# Altium footprint library Capasitors.PcbLib: 66 footprints (part 2 of 5)
Each footprint in its own frame and in the unit in brackets; x right, y up, seen from the top. Pads: shape width x height; smd on the part's side, far side on the other; paste and mask are expansions set on the pad; w line width, h text height; cw(c..) or ccw(c..) is an arc to the next point about the centre after c.
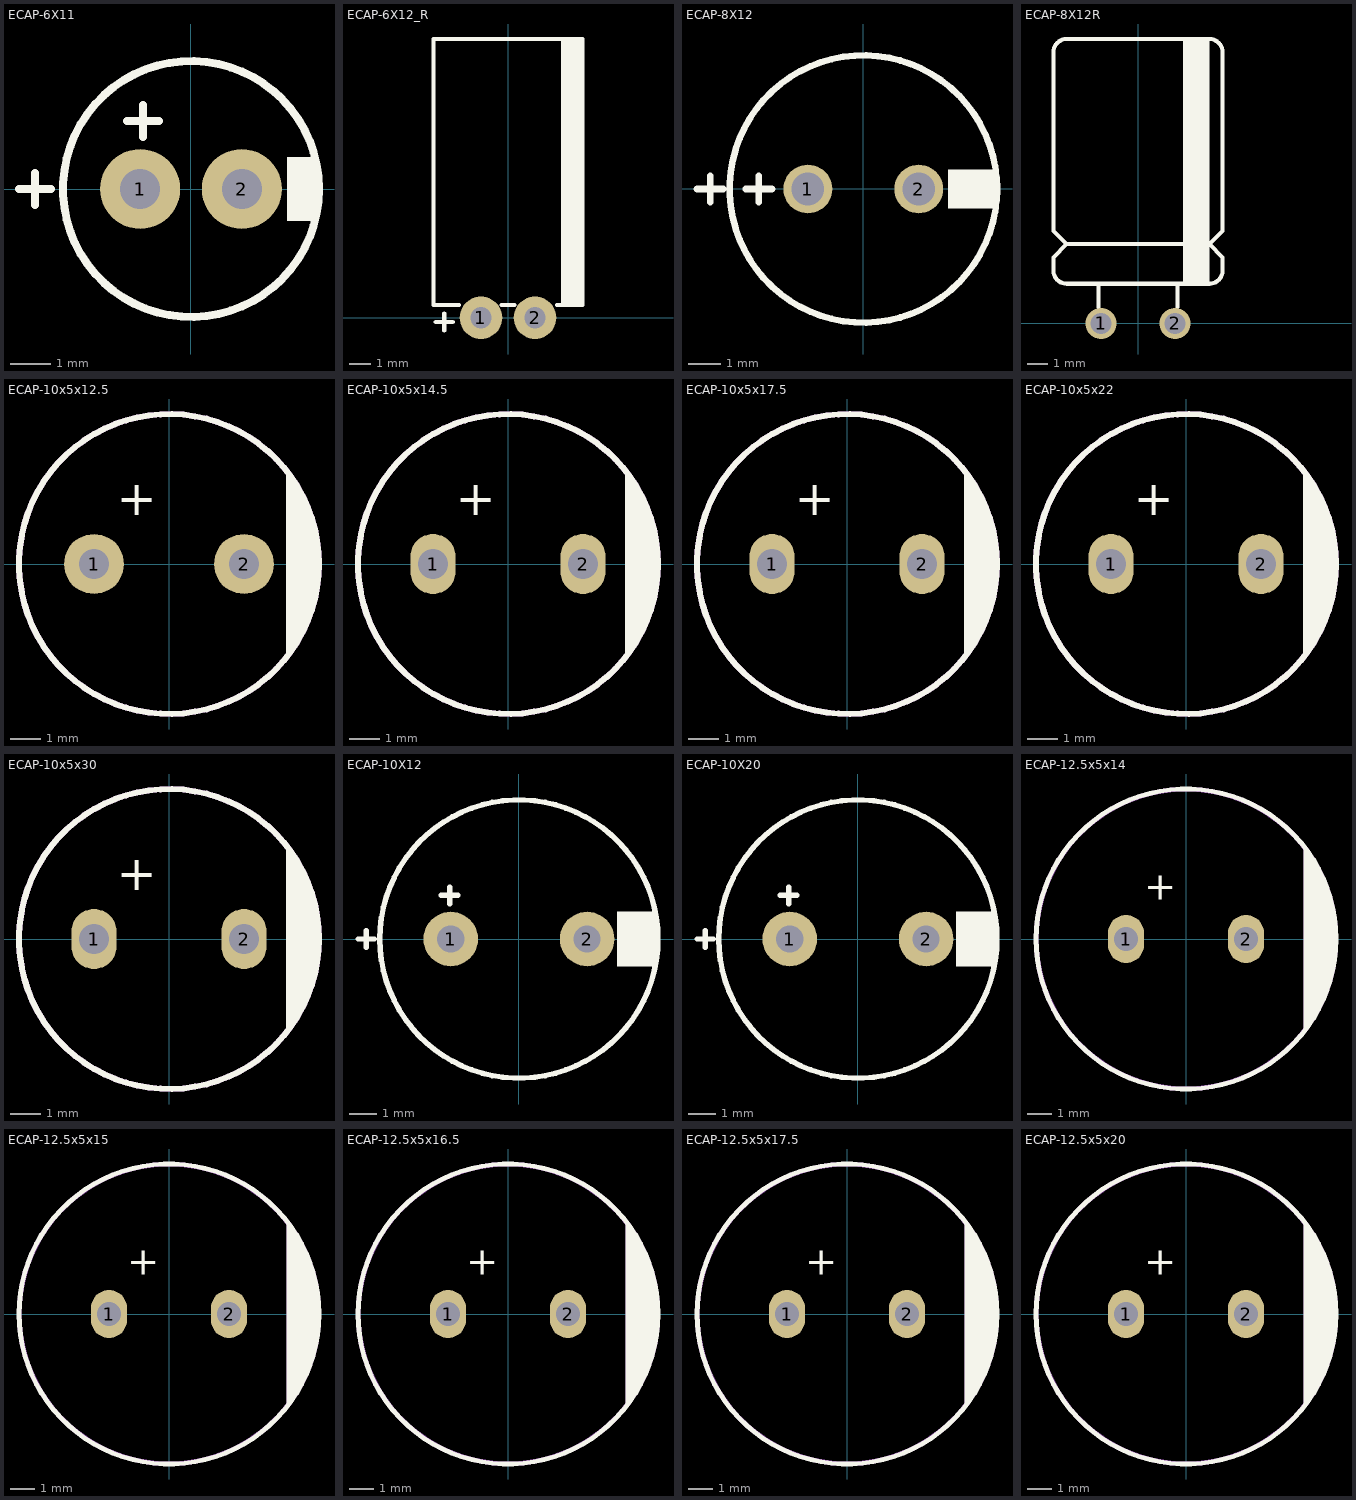
[diagram p1: the footprints below, top view; thin cyan lines are the x and y axes]

## ECAP-6X11 [mm] "Cap Elec, D6.3X11.0H pitch: 2.5mm"
height 11
pads (2):
  round 2 hole 1: 1(-1.27,0) 2(1.27,0)
Top Overlay:
  circle w0.2: c0,0 r3.2
  rectangle: 2.4,-0.8 3.184,0.8
  lines w0.2: -4.3,0 -3.5,0 ; -3.9,-0.4 -3.9,0.4 ; -1.6,1.7 -0.8,1.7 ; -1.2,1.3 -1.2,2.1
3D body "SW3dPS-Cap electro 6.3x11x2.5mm.STEP": height 2.51, standoff -12.03, extent -3.175,-3.175 3.175,3.176

## ECAP-6X12_R [mm] "Cap Elec, D6.3X12.0H pitch: 2.5mm"
height 11
pads (2):
  round 2 hole 1: 1(-1.27,0) 2(1.27,0)
Top Overlay:
  rectangle: 2.5,0.6 3.5,13.1
  lines w0.2: -3.4,-0.2 -2.6,-0.2 ; -3,-0.6 -3,0.2 ; -2.3,0.6 -3.5,0.6 -3.5,13.1 3.5,13.1 3.5,0.6 2.3,0.6 ; -0.3,0.6 0.3,0.6
3D body "CAPAE250P680X1220_FLAT1.STEP": height 6.8, standoff -1.78, extent -3.401,-0.249 3.4,12.952

## ECAP-8X12 [mm] "Cap Elec, D8.0X12.0H pitch: 3.5mm, RB.14/.26, RB.15/.32"
height 12
pads (2):
  round 1.5 hole 1: 1(-1.7,0) 2(1.7,0)
Top Overlay:
  circle w0.2: c0,0 r4.1
  rectangle: 2.6,-0.6 4,0.6
  lines w0.2: -5.1,0 -4.3,0 ; -4.7,-0.4 -4.7,0.4 ; -3.6,0 -2.8,0 ; -3.2,-0.4 -3.2,0.4
3D body "User Library-Cap electro 8x11_5x3_5mm.step": height 2.98, standoff -12.53, extent -4.025,-4.025 4.025,4.025

## ECAP-8X12R [mm] "Cap Elec, D8.0X12.0H pitch: 3.5mm, RIGHT ANGLE"
pads (2):
  round 1.5 hole 1: 1(-1.778,0) 2(1.778,0)
Top Overlay:
  region: 2.159,13.67 2.159,1.905 3.429,1.905 3.429,13.67
  lines w0.2: -1.905,0.762 -1.905,1.905 ; 1.905,0.787 1.905,1.905 ; -3.429,3.81 -4.064,4.445 -4.064,13.035 cw(c-3.429,13.035) -3.429,13.67 3.429,13.67 cw(c3.429,13.035) 4.064,13.035 4.064,4.445 3.429,3.81 ; -3.429,3.81 -4.064,3.175 -4.064,2.54 ccw(c-3.429,2.54) -3.429,1.905 3.429,1.905 ccw(c3.429,2.54) 4.064,2.54 4.064,3.175 3.429,3.81 ; -3.429,3.81 3.429,3.81
3D body "User Library-Cap electro 8x11_5x3_5mm RA.step": height 8.03, standoff -2, extent -4.025,-0.3 4.025,13.521

## ECAP-10x5x12.5 [mm] "10MM Diameter, 5MM Lead Spacing Aluminium Capacitor"
height 12.5
pads (2):
  round 2 hole 1: 1(-2.5,0) 2(2.5,0)
Top Overlay:
  circle w0.2: c0,0 r5
  region: 4,3 4.5,2.25 5,0.75 5,-0.75 4.75,-1.5 4.25,-2.75 4,-3
  lines w0.2: 4,-3 4,3
  text "+" at -1.75,1.25 h2
Mechanical 13:
  circle w0.2: c0,0 r5
  lines w0.2: 4,-3 4,3
3D body "CAP ALTH D-10MM L-5.0MM H-12.5MM.STEP": height 12.7, standoff -3, extent -5,-5 5,5

## ECAP-10x5x14.5 [mm] "10MM Diameter, 5MM Lead Spacing Aluminium Capacitor"
height 14.5
pads (2):
  oval 1.5x2 hole 1: 1(-2.5,0) 2(2.5,0)
Top Overlay:
  circle w0.2: c0,0 r5
  region: 4,3 4.5,2.25 5,0.75 5,-0.75 4.75,-1.5 4.25,-2.75 4,-3
  lines w0.2: 4,-3 4,3
  text "+" at -1.75,1.25 h2
Mechanical 13:
  circle w0.2: c0,0 r5
  lines w0.2: 4,-3 4,3
3D body "CAP ALTH D-10MM L-5.0MM H-14.5MM.STEP": height 14.7, standoff -3, extent -5,-5 5,5

## ECAP-10x5x17.5 [mm] "10MM Diameter, 5MM Lead Spacing Aluminium Capacitor"
height 17.5
pads (2):
  oval 1.5x2 hole 1: 1(-2.5,0) 2(2.5,0)
Top Overlay:
  circle w0.2: c0,0 r5
  region: 4,3 4.5,2.25 5,0.75 5,-0.75 4.75,-1.5 4.25,-2.75 4,-3
  lines w0.2: 4,-3 4,3
  text "+" at -1.75,1.25 h2
Mechanical 13:
  circle w0.2: c0,0 r5
  lines w0.2: 4,-3 4,3
3D body "CAP ALTH D-10MM L-5.0MM H-17.5MM.STEP": height 17.7, standoff -3, extent -5,-5 5,5

## ECAP-10x5x22 [mm] "10MM Diameter, 5MM Lead Spacing Aluminium Capacitor"
height 22
pads (2):
  oval 1.5x2 hole 1: 1(-2.5,0) 2(2.5,0)
Top Overlay:
  circle w0.2: c0,0 r5
  region: 4,3 4.5,2.25 5,0.75 5,-0.75 4.75,-1.5 4.25,-2.75 4,-3
  lines w0.2: 4,-3 4,3
  text "+" at -1.75,1.25 h2
Mechanical 13:
  circle w0.2: c0,0 r5
  lines w0.2: 4,-3 4,3
3D body "CAP ALTH D-10MM L-5.0MM H-22MM.STEP": height 22.2, standoff -3, extent -5,-5 5,5

## ECAP-10x5x30 [mm] "10MM Diameter, 5MM Lead Spacing Aluminium Capacitor"
height 30
pads (2):
  oval 1.5x2 hole 1: 1(-2.5,0) 2(2.5,0)
Top Overlay:
  circle w0.2: c0,0 r5
  region: 4,3 4.5,2.25 5,0.75 5,-0.75 4.75,-1.5 4.25,-2.75 4,-3
  lines w0.2: 4,-3 4,3
  text "+" at -1.75,1.25 h2
Mechanical 13:
  circle w0.2: c0,0 r5
  lines w0.2: 4,-3 4,3
3D body "CAP ALTH D-10MM L-5.0MM H-30MM.STEP": height 30.2, standoff -3, extent -5,-4.999 5,4.999

## ECAP-10X12 [mm] "Cap Elec, D10.0X12.0H pitch: 5.0mm"
height 12
pads (2):
  round 2 hole 1: 1(-2.5,0) 2(2.5,0)
Top Overlay:
  circle w0.2: c0,0 r5.1
  rectangle: 3.6,-1 5.1,1
  lines w0.2: -5.9,0 -5.3,0 ; -5.6,-0.3 -5.6,0.3 ; -2.84,1.6 -2.24,1.6 ; -2.54,1.3 -2.54,1.9
3D body "ELE Radial 10x12.STEP": height 13.7, standoff -1.7, extent -5.11,-5.097 5.05,5.06

## ECAP-10X20 [mm] "Cap Elec, D10.0X20.0H pitch: 5.0mm, RB.2/.4"
height 20
pads (2):
  round 2 hole 1: 1(-2.5,0) 2(2.5,0)
Top Overlay:
  circle w0.2: c0,0 r5.1
  rectangle: 3.6,-1 5.1,1
  lines w0.2: -5.9,0 -5.3,0 ; -5.6,-0.3 -5.6,0.3 ; -2.84,1.6 -2.24,1.6 ; -2.54,1.3 -2.54,1.9
3D body "CE_R200_D400_H800.step": height 20.62, standoff -2.6, extent -5.08,-5.111 5.08,5.049

## ECAP-12.5x5x14 [mm] "12.5MM Diameter, 5MM Lead Spacing Aluminium Capacitor"
height 14
pads (2):
  oval 1.5x2 hole 1: 1(-2.5,0) 2(2.5,0)
Top Overlay:
  circle w0.2: c0,0 r6.25
  region: 5,-3.75 5,3.75 5.75,2.5 6.25,1 6.25,0 6,-1.5 5.75,-2.5
  lines w0.2: 5,-3.75 5,3.75
  text "+" at -1.75,1.25 h2
Mechanical 13:
  circle w0.2: c0,0 r6.241
  lines w0.2: 5,-3.75 5,3.75
3D body "CAP ALTH D-12.5MM L-5.0MM H-14MM .STEP": height 14.2, standoff -3, extent -6.25,-6.25 6.25,6.25

## ECAP-12.5x5x15 [mm] "12.5MM Diameter, 5MM Lead Spacing Aluminium Capacitor"
height 15
pads (2):
  oval 1.5x2 hole 1: 1(-2.5,0) 2(2.5,0)
Top Overlay:
  circle w0.2: c0,0 r6.25
  region: 5,-3.75 5,3.75 5.75,2.5 6.25,1 6.25,0 6,-1.5 5.75,-2.5
  lines w0.2: 5,-3.75 5,3.75
  text "+" at -1.75,1.25 h2
Mechanical 13:
  circle w0.2: c0,0 r6.241
  lines w0.2: 5,-3.75 5,3.75
3D body "CAP ALTH D-12.5MM L-5.0MM H-15MM .STEP": height 15.2, standoff -3, extent -6.25,-6.249 6.25,6.249

## ECAP-12.5x5x16.5 [mm] "12.5MM Diameter, 5MM Lead Spacing Aluminium Capacitor"
height 16.5
pads (2):
  oval 1.5x2 hole 1: 1(-2.5,0) 2(2.5,0)
Top Overlay:
  circle w0.2: c0,0 r6.25
  region: 5,-3.75 5,3.75 5.75,2.5 6.25,1 6.25,0 6,-1.5 5.75,-2.5
  lines w0.2: 5,-3.75 5,3.75
  text "+" at -1.75,1.25 h2
Mechanical 13:
  circle w0.2: c0,0 r6.241
  lines w0.2: 5,-3.75 5,3.75
3D body "CAP ALTH D-12.5MM L-5.0MM H-16.5MM .STEP": height 16.7, standoff -3, extent -6.25,-6.249 6.25,6.249

## ECAP-12.5x5x17.5 [mm] "12.5MM Diameter, 5MM Lead Spacing Aluminium Capacitor"
height 17.5
pads (2):
  oval 1.5x2 hole 1: 1(-2.5,0) 2(2.5,0)
Top Overlay:
  circle w0.2: c0,0 r6.25
  region: 5,-3.75 5,3.75 5.75,2.5 6.25,1 6.25,0 6,-1.5 5.75,-2.5
  lines w0.2: 5,-3.75 5,3.75
  text "+" at -1.75,1.25 h2
Mechanical 13:
  circle w0.2: c0,0 r6.241
  lines w0.2: 5,-3.75 5,3.75
3D body "CAP ALTH D-12.5MM L-5.0MM H-17.5MM .STEP": height 17.7, standoff -3, extent -6.25,-6.249 6.25,6.249

## ECAP-12.5x5x20 [mm] "12.5MM Diameter, 5MM Lead Spacing Aluminium Capacitor"
height 20
pads (2):
  oval 1.5x2 hole 1: 1(-2.5,0) 2(2.5,0)
Top Overlay:
  circle w0.2: c0,0 r6.25
  region: 5,-3.75 5,3.75 5.75,2.5 6.25,1 6.25,0 6,-1.5 5.75,-2.5
  lines w0.2: 5,-3.75 5,3.75
  text "+" at -1.75,1.25 h2
Mechanical 13:
  circle w0.2: c0,0 r6.241
  lines w0.2: 5,-3.75 5,3.75
3D body "CAP ALTH D-12.5MM L-5.0MM H-20MM.STEP": height 20.2, standoff -3, extent -6.25,-6.249 6.25,6.249